# Altium footprint library SHEET25.PcbLib: 48 footprints (part 3 of 3)
Each footprint in its own frame and in the unit in brackets; x right, y up, seen from the top. Pads: shape width x height; smd on the part's side, far side on the other; paste and mask are expansions set on the pad; w line width, h text height; cw(c..) or ccw(c..) is an arc to the next point about the centre after c.
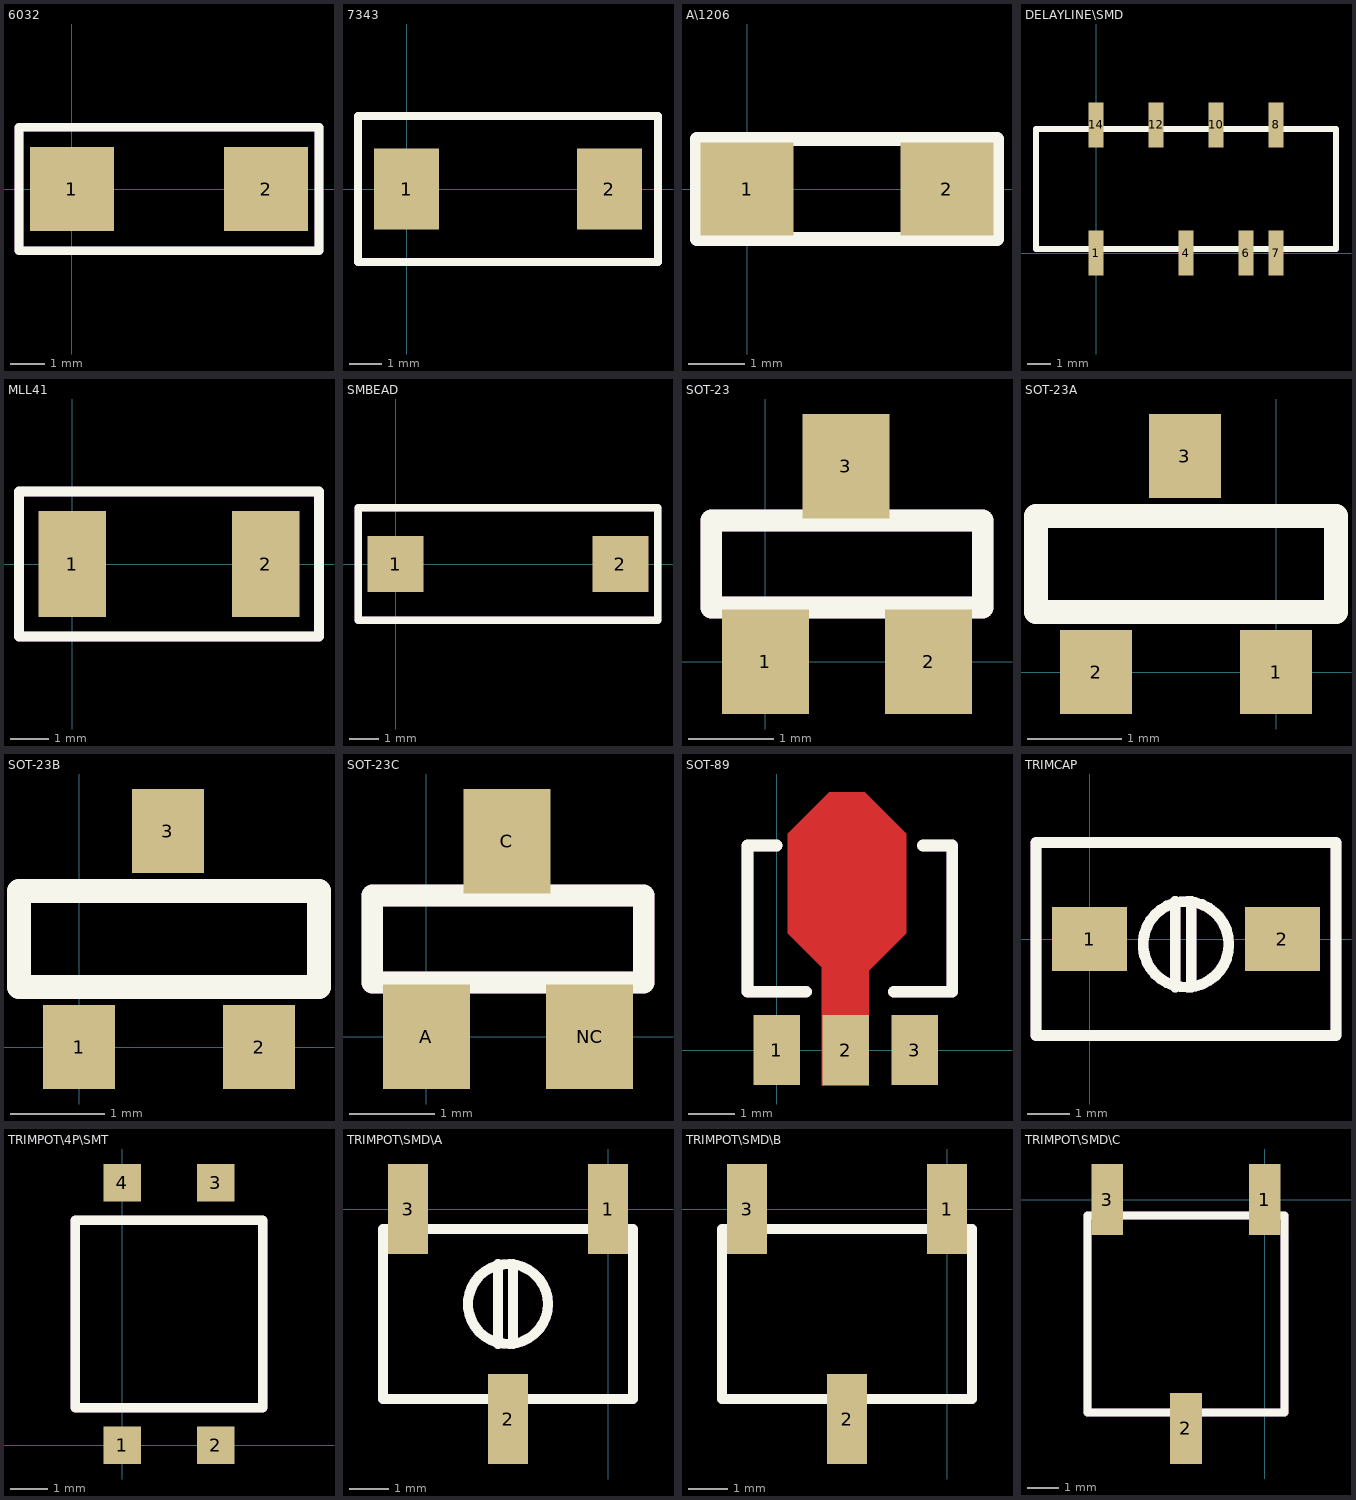
[diagram p2: the footprints below, top view; thin cyan lines are the x and y axes]

## 6032 [mil]
pads (2):
  rect 95x95 smd: 1(0,0) 2(220,0)
Top Overlay:
  lines w10: -60,-70 -60,70 280,70 280,-70 -60,-70
  text ".Designator" at 0,282 h60
Mechanical 1:
  lines w10: -60,-70 -60,70 280,70 280,-70 -60,-70
  text ".Designator" at 0,82 h60
  text ".Pattern" at -15,-175 h60

## 7343 [mil]
pads (2):
  rect 80x100 smd: 1(0,0) 2(250,0)
Top Overlay:
  lines w10: -60,-90 310,-90 310,90 -60,90 -60,-90
  text ".Designator" at -25,100 h60
Mechanical 1:
  lines w10: -60,-90 -60,90 310,90 310,-90 -60,-90
  text ".Designator" at -25,100 h60
  text ".Pattern" at 25,-200 h60

## A\1206 [mil]
pads (2):
  rect 65x65 smd: 1(0,0) 2(140,0)
Top Overlay:
  lines w10: -35,-35 175,-35 175,35 -35,35 -35,-35
  text ".Designator" at -55,75 h60
Mechanical 1:
  lines w10: -35,-35 175,-35 175,35 -35,35 -35,-35
  text ".Designator" at -55,75 h60
  text ".Pattern" at -30,-150 h60

## DELAYLINE\SMD [mil]
pads (8):
  rect 25x75 smd: 1(0,0) 4(150,0) 6(250,0) 7(300,0) 8(300,214) 10(200,214) 12(100,214) 14(0,214)
Top Overlay:
  lines w10: -100,7 -100,207 400,207 400,7 -100,7
  text ".Designator" at -250,80 h60
Mechanical 1:
  lines w10: -100,7 -100,207 400,207 400,7 -100,7
  text ".Designator" at -250,80 h60
  text ".Pattern" at -25,-168 h60

## MLL41 [mil]
pads (2):
  rect 70x110 smd: 1(0,0) 2(200,0)
Top Overlay:
  lines w10: -55,-75 -55,75 255,75 255,-75 -55,-75
  text ".Designator" at -25,150 h60
Mechanical 1:
  lines w10: -55,-75 255,-75 255,75 -55,75 -55,-75
  text ".Designator" at -25,75 h60
  text ".Pattern" at -25,-175 h60

## SMBEAD [mil]
pads (2):
  rect 75x75 smd: 1(0,0) 2(300,0)
Top Overlay:
  lines w10: -50,-75 350,-75 350,75 -50,75 -50,-75
Mechanical 1:
  lines w10: -50,-75 350,-75 350,75 -50,75 -50,-75
  text ".Pattern" at -25,-175 h60

## SOT-23 [mil]
pads (3):
  rect 40x48 smd: 1(0,0) 2(75,0) 3(37,90)
Top Overlay:
  lines w10: -25,25 -25,65 100,65 100,25 -25,25
  text ".Designator" at -38,145 h60
Mechanical 1:
  lines w10: -25,25 -25,65 100,65 100,25 -25,25
  text ".Designator" at -38,145 h60
  text ".Pattern" at -38,-155 h60

## SOT-23A [mil]
pads (3):
  rect 30x35 smd: 1(0,0) 2(-75,0) 3(-38,90)
Top Overlay:
  lines w10: -100,25 -100,65 25,65 25,25 -100,25
  text ".Designator" at -113,170 h60
Mechanical 1:
  lines w10: -100,25 -100,65 25,65 25,25 -100,25
  text ".Designator" at -113,170 h60
  text ".Pattern" at -113,-130 h60

## SOT-23B [mil]
pads (3):
  rect 30x35 smd: 1(0,0) 2(75,0) 3(37,90)
Top Overlay:
  lines w10: -25,25 100,25 100,65 -25,65 -25,25
  text ".Designator" at -38,195 h60
Mechanical 1:
  lines w10: -25,25 -25,65 100,65 100,25 -25,25
  text ".Designator" at -38,120 h60
  text ".Pattern" at -38,-130 h60

## SOT-23C [mil]
pads (3):
  rect 40x48 smd: A(0,0) C(37,90) NC(75,0)
Top Overlay:
  lines w10: -25,25 -25,65 100,65 100,25 -25,25
  text ".Designator" at -38,195 h60
Mechanical 1:
  lines w10: -25,25 -25,65 100,65 100,25 -25,25
  text ".Designator" at -38,120 h60
  text ".Pattern" at -38,-130 h60

## SOT-89 [mil]
pads (3):
  rect 40x60 smd: 1(0,0) 2(59,0) 3(118,0)
Top Layer:
  region: 78.38,77.38 78.54,77 78.54,-30 78.38,-30.38 78,-30.54 39,-30.54 38.62,-30.38 38.46,-30 38.46,77 38.62,77.38 39,77.54 78,77.54
  region: 75.38,220.38 110.38,185.38 110.54,185 110.54,100 110.38,99.62 75.38,64.62 75,64.46 45,64.46 44.62,64.62 9.62,99.62 9.46,100 9.46,185 9.62,185.38 44.62,220.38 45,220.54 75,220.54
Top Overlay:
  lines w10: 0,175 -25,175 -25,50 25,50 ; 100,50 150,50 150,175 125,175
  text ".Designator" at -50,250 h60
Top Paste:
  region: 78.38,77.38 78.54,77 78.54,-30 78.38,-30.38 78,-30.54 39,-30.54 38.62,-30.38 38.46,-30 38.46,77 38.62,77.38 39,77.54 78,77.54
  region: 75.38,220.38 110.38,185.38 110.54,185 110.54,100 110.38,99.62 75.38,64.62 75,64.46 45,64.46 44.62,64.62 9.62,99.62 9.46,100 9.46,185 9.62,185.38 44.62,220.38 45,220.54 75,220.54
Top Solder:
  region: 80.3,79.3 81.25,77 81.25,-30 80.3,-32.3 78,-33.25 39,-33.25 36.7,-32.3 35.75,-30 35.75,77 36.7,79.3 39,80.25 78,80.25
  region: 77.3,222.3 112.3,187.3 113.25,185 113.25,100 112.3,97.7 77.3,62.7 75,61.75 45,61.75 42.7,62.7 7.7,97.7 6.75,100 6.75,185 7.7,187.3 42.7,222.3 45,223.25 75,223.25
Mechanical 1:
  lines w10: 0,175 -25,175 -25,50 25,50 ; 100,50 150,50 150,175 125,175
  text ".Designator" at -50,250 h60
  text ".Pattern" at -25,-175 h60

## TRIMCAP [mil]
pads (2):
  rect 70x60 smd: 1(0,0) 2(180,0)
Top Overlay:
  circle w10: c90,-5 r40
  lines w10: 80,-45 80,35 ; 95,-45 95,35 ; -50,-90 230,-90 230,90 -50,90 -50,-90
Mechanical 1:
  circle w10: c90,-5 r40
  lines w10: 80,-45 80,35 ; 95,-45 95,35 ; -50,-90 230,-90 230,90 -50,90 -50,-90
  text ".Pattern" at -75,-250 h60

## TRIMPOT\4P\SMT [mil]
pads (4):
  rect 40x40 smd: 1(0,0) 2(100,0) 3(100,280) 4(0,280)
Top Overlay:
  lines w10: -50,40 150,40 150,240 -50,240 -50,40
  text ".Designator" at -75,250 h60
Mechanical 1:
  lines w10: -50,40 -50,240 150,240 150,40 -50,40
  text ".Designator" at -75,150 h60
  text ".Pattern" at -50,-160 h60

## TRIMPOT\SMD\A [mil]
pads (3):
  rect 40x90 smd: 1(0,0) 2(-100,-210) 3(-200,0)
Top Overlay:
  circle w10: c-100,-95 r40
  circle w10: c-100,-95 r40
  circle w10: c-100,-95 r40
  lines w10: -110,-135 -110,-55 ; -110,-135 -110,-55 ; -110,-135 -110,-55 ; -95,-135 -95,-55 ; -95,-135 -95,-55 ; -95,-135 -95,-55 ; -225,-190 25,-190 25,-20 -225,-20 -225,-190
  text ".Designator" at -50,340 h60
Mechanical 1:
  circle w10: c-100,-95 r40
  lines w10: -110,-135 -110,-55 ; -95,-135 -95,-55 ; -225,-190 -225,-20 25,-20 25,-190 -225,-190
  text ".Designator" at -50,340 h60
  text ".Pattern" at -225,-380 h60

## TRIMPOT\SMD\B [mil]
pads (3):
  rect 40x90 smd: 1(0,0) 2(-100,-210) 3(-200,0)
Top Overlay:
  lines w10: -225,-190 -225,-20 25,-20 25,-190 -225,-190
  text ".Designator" at -225,70 h60
Mechanical 1:
  lines w10: -225,-190 -225,-20 25,-20 25,-190 -225,-190
  text ".Designator" at -225,70 h60
  text ".Pattern" at -225,-380 h60

## TRIMPOT\SMD\C [mil]
pads (3):
  rect 40x90 smd: 1(0,0) 2(-100,-290) 3(-200,0)
Top Overlay:
  lines w10: -225,-270 -225,-20 25,-20 25,-270 -225,-270
  text ".Designator" at -225,170 h60
Mechanical 1:
  lines w10: -225,-270 -225,-20 25,-20 25,-270 -225,-270
  text ".Designator" at -225,70 h60
  text ".Pattern" at -225,-470 h60